# Altium schematic symbol library Inductor.Schlib: 1 symbol
Pins are listed as number, name and electrical type; pins without a type are passive.

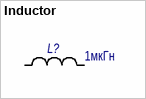
[diagram p0: symbol Inductor]

## Inductor
designator L?  value 1мкГн  (hidden comment: Inductor)
Наименование: Индуктивность; Назначение: SMD-индуктивность; Потребление, Вт: 0,010
footprint SMD_0402
footprint SMD_0603
footprint SMD_0805
footprint SMD_1206
footprint SMD_size_B
footprint SMD_size_C
footprint RLB
footprint SDR0805 (Precision Wire Wound Inductor, 2-Leads, Body 7,80x7,80mm, IPC Medium Density)
footprint INDUCTOR-4x4 (Precision Wire Wound Inductor, 2-Leads, Body 4,00x4,00mm, IPC Medium Density)
footprint SMD_1210
footprint 0630CDMCDDS (SMD Power Inductor)
footprint SRP7030CA
footprint IND_AMDLA4020S-2R2MT
pins: 1, 2